# Altium integrated library Motorola Peripheral Real Time Clock.IntLib: 3 symbols
Pins are listed as number, name and electrical type; pins without a type are passive.

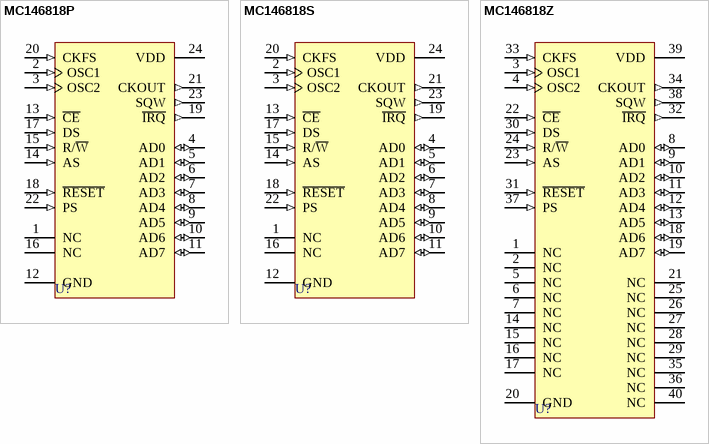
[diagram p0: symbols MC146818P to MC146818Z]

## MC146818P
designator U?
Real-Time Clock plus RAM; Published: 17-Jul-2002; LatestRevisionDate: 06-Jun-2005; LatestRevisionNote: Stylized 3D Model Added.; DatasheetVersion: 1988; PackageReference: 709-02; Publisher: Altium Limited; PackageDescription: DIP; 24 Leads; Row Spacing 15.24 mm; Pitch 2.54 mm
footprint 709-02 (DIP; 24 Leads; Row Spacing 15.24 mm; Pitch 2.54 mm)
3D model 709-02 (DIP; 24 Leads; Row Spacing 15.24 mm; Pitch 2.54 mm)
pins: 1 NC, 2 OSC1 (in), 3 OSC2 (in), 4 AD0 (io), 5 AD1 (io), 6 AD2 (io), 7 AD3 (io), 8 AD4 (io), 9 AD5 (io), 10 AD6 (io), 11 AD7 (io), 12 GND (power), 13 ~{CE} (in), 14 AS (in), 15 R/~{W} (in), 16 NC, 17 DS (in), 18 ~{RESET} (in), 19 ~{IRQ} (out), 20 CKFS (in), 21 CKOUT (out), 22 PS (in), 23 SQW (out), 24 VDD (power)

## MC146818S
designator U?
Real-Time Clock plus RAM; Published: 17-Jul-2002; LatestRevisionDate: 06-Jun-2005; LatestRevisionNote: Stylized 3D Model Added.; DatasheetVersion: 1984; PackageReference: 623-05; Publisher: Altium Limited; PackageDescription: DIP; 24 Leads; Row Spacing 15.24 mm; Pitch 2.54 mm; Code_JEDEC: MS-011-AA
footprint 623-05 (DIP; 24 Leads; Row Spacing 15.24 mm; Pitch 2.54 mm)
3D model 623-05 (DIP; 24 Leads; Row Spacing 15.24 mm; Pitch 2.54 mm)
pins: 1 NC, 2 OSC1 (in), 3 OSC2 (in), 4 AD0 (io), 5 AD1 (io), 6 AD2 (io), 7 AD3 (io), 8 AD4 (io), 9 AD5 (io), 10 AD6 (io), 11 AD7 (io), 12 GND (power), 13 ~{CE} (in), 14 AS (in), 15 R/~{W} (in), 16 NC, 17 DS (in), 18 ~{RESET} (in), 19 ~{IRQ} (out), 20 CKFS (in), 21 CKOUT (out), 22 PS (in), 23 SQW (out), 24 VDD (power)

## MC146818Z
designator U?
Real-Time Clock plus RAM; Published: 17-Jul-2002; DatasheetVersion: 1984; PackageReference: 761-01; Publisher: Altium Limited; PackageDescription: Leadless Chip Carrier; 40 Terminals; Body 12.3 x 12.3 mm; Pitch 1.016 mm
footprint 761-01 (Leadless Chip Carrier; 40 Terminals; Body 12.3 x 12.3 mm; Pitch 1.016 mm)
pins: 1 NC, 2 NC, 3 OSC1 (in), 4 OSC2 (in), 5 NC, 6 NC, 7 NC, 8 AD0 (io), 9 AD1 (io), 10 AD2 (io), 11 AD3 (io), 12 AD4 (io), 13 AD5 (io), 14 NC, 15 NC, 16 NC, 17 NC, 18 AD6 (io), 19 AD7 (io), 20 GND (power), 21 NC, 22 ~{CE} (in), 23 AS (in), 24 R/~{W} (in), 25 NC, 26 NC, 27 NC, 28 NC, 29 NC, 30 DS (in), 31 ~{RESET} (in), 32 ~{IRQ} (out), 33 CKFS (in), 34 CKOUT (out), 35 NC, 36 NC, 37 PS (in), 38 SQW (out), 39 VDD (power), 40 NC